# Altium integrated library TI Microcontroller MSP430 16-bit Ultra-Low Power.IntLib: 1463 symbols (part 42 of 130)
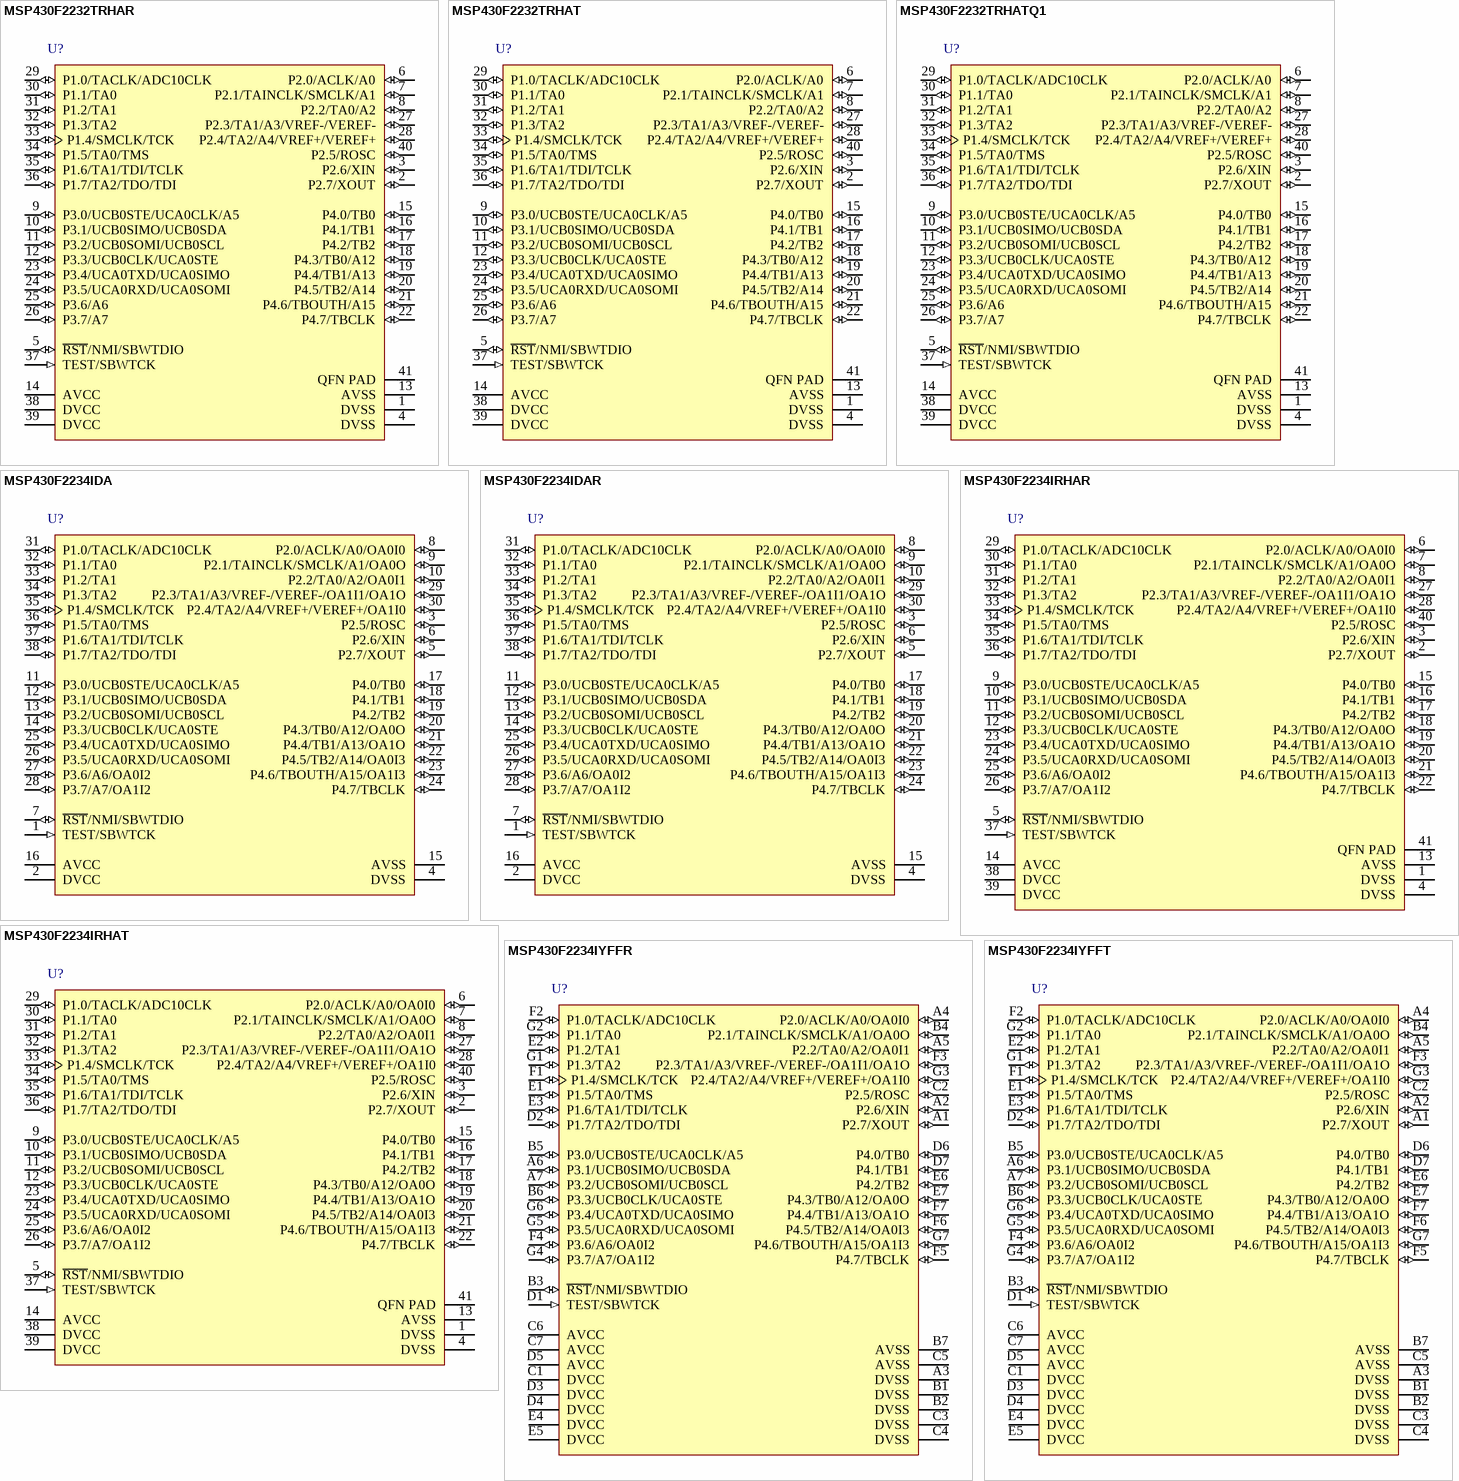
[diagram p357: symbols MSP430F2232TRHAR to MSP430F2234IYFFT]

## MSP430F2234IRHAT
designator U?
16 MHz Mixed Signal Microcontroller with 8 KB Flash, 512 B SRAM and 32 GPIOs, -40 to 85 degC, 40-pin QFN (RHA), Green (RoHS & no Sb/Br); Manufacturer: Texas Instruments; PartNumber: MSP430F2234IRHAT; ADC: 10-bit SAR; ADC Channels: 12; Brown Out Reset: Yes; Flash(KB): 8; Frequency(MHz): 16; GPIO: 32; SRAM(B): 512; SubFamily: 2 Series, Extended Temp; Timers - 16-bit: 2; USCI_A (UART/LIN/IrDA/SPI): 1; DatasheetVersion: SLAS504G; PackageVersion: 4204276/E; PackageReference: RHA40-4150X4150TP; PackageDescription: 40-Pin Plastic Flat Pack, Body 6 x 6 mm, Pitch 0.5 mm; Supplier 1: Digi-Key; Supplier Part Number 1: MSP430F2234IRHAR-ND; Supplier 2: Newark; Supplier Part Number 2: 28M6322; Supplier 3: Mouser; Supplier Part Number 3: 595-MSP430F2234IRHAR; Eco-Plan: Green (RoHS & no Sb/Br); USCI_B (I2C & SPI): 1; Watchdog: Yes; Mounting Technology: Surface Mount; Code_JEDEC: MO-220; ComponentLink1Description: Manufacturer URL; ComponentLink1URL: http://www.ti.com/; ComponentLink2Description: Datasheet; ComponentLink2URL: http://www.ti.com/general/docs/lit/getliterature.tsp?genericPartNumber=MSP430F2234&fileType=pdf; ComponentLink3Description: Package Specification; ComponentLink3URL: http://www.ti.com/litv/pdf/mpqf135c
footprint TI-RHA40-4150X4150TP_N (QFN, 40-Leads, Body 6x6mm, Pitch 0.5mm, Thermal Pad 4.15x4.15mm, IPC Medium Density)
pins: 1 DVSS (power) "Digital ground reference", 2 P2.7/XOUT (io), 3 P2.6/XIN (io), 4 DVSS (power) "Digital ground reference", 5 ~{RST}/NMI/SBWTDIO (io), 6 P2.0/ACLK/A0/OA0I0 (io), 7 P2.1/TAINCLK/SMCLK/A1/OA0O (io), 8 P2.2/TA0/A2/OA0I1 (io), 9 P3.0/UCB0STE/UCA0CLK/A5 (io), 10 P3.1/UCB0SIMO/UCB0SDA (io), 11 P3.2/UCB0SOMI/UCB0SCL (io), 12 P3.3/UCB0CLK/UCA0STE (io), 13 AVSS (power) "Analog ground reference", 14 AVCC (power) "Analog supply voltage", 15 P4.0/TB0 (io), 16 P4.1/TB1 (io), 17 P4.2/TB2 (io), 18 P4.3/TB0/A12/OA0O (io), 19 P4.4/TB1/A13/OA1O (io), 20 P4.5/TB2/A14/OA0I3 (io), 21 P4.6/TBOUTH/A15/OA1I3 (io), 22 P4.7/TBCLK (io), 23 P3.4/UCA0TXD/UCA0SIMO (io), 24 P3.5/UCA0RXD/UCA0SOMI (io), 25 P3.6/A6/OA0I2 (io), 26 P3.7/A7/OA1I2 (io), 27 P2.3/TA1/A3/VREF-/VEREF-/OA1I1/OA1O (io), 28 P2.4/TA2/A4/VREF+/VEREF+/OA1I0 (io), 29 P1.0/TACLK/ADC10CLK (io), 30 P1.1/TA0 (io), 31 P1.2/TA1 (io), 32 P1.3/TA2 (io), 33 P1.4/SMCLK/TCK (io), 34 P1.5/TA0/TMS (io), 35 P1.6/TA1/TDI/TCLK (io), 36 P1.7/TA2/TDO/TDI (io), 37 TEST/SBWTCK (in), 38 DVCC (power) "Digital supply voltage", 39 DVCC (power) "Digital supply voltage", 40 P2.5/ROSC (io), 41 QFN PAD (power) "QFN package pad; connection to DVSS recommended."

## MSP430F2234IYFFR
designator U?
16 MHz Mixed Signal Microcontroller with 8 KB Flash, 512 B SRAM and 32 GPIOs, -40 to 85 degC, 49-pin BGA (YFF), Green (RoHS & no Sb/Br); Manufacturer: Texas Instruments; PartNumber: MSP430F2234IYFFR; ADC: 10-bit SAR; ADC Channels: 12; Brown Out Reset: Yes; Flash(KB): 8; Frequency(MHz): 16; GPIO: 32; SRAM(B): 512; SubFamily: 2 Series, Extended Temp; Timers - 16-bit: 2; USCI_A (UART/LIN/IrDA/SPI): 1; DatasheetVersion: SLAS504G; PackageVersion: 4207625-16/AJ; PackageReference: YFF49; PackageDescription: 49-Ball Silicon Grid Array, Body 3.33 x 3.49 mm, Pitch 0.4 mm; Supplier 1: Digi-Key; Supplier Part Number 1: 296-21447-2-ND; Supplier 2: Digi-Key; Supplier Part Number 2: 296-21447-1-ND; Supplier 3: Digi-Key; Supplier Part Number 3: 296-21447-6-ND; Supplier 4: Farnell; Supplier Part Number 4: 1649420; Supplier 5: Farnell; Supplier Part Number 5: 1503304; Supplier 6: Newark; Supplier Part Number 6: 28M6323; Supplier 7: Newark; Supplier Part Number 7: 15P0271; Supplier 8: Mouser; Supplier Part Number 8: 595-MSP430F2234IRHAT; Eco-Plan: Green (RoHS & no Sb/Br); USCI_B (I2C & SPI): 1; Watchdog: Yes; Mounting Technology: Surface Mount; ComponentLink1Description: Manufacturer URL; ComponentLink1URL: http://www.ti.com/; ComponentLink2Description: Datasheet; ComponentLink2URL: http://www.ti.com/general/docs/lit/getliterature.tsp?genericPartNumber=MSP430F2234&fileType=pdf; ComponentLink3Description: Package Specification; ComponentLink3URL: http://www.ti.com/lit/ds/symlink/msp430f2232.pdf
footprint TI-YFF49-3330X3490DE (BGA, 49-Balls, Body 3.49x3.33mm, Pitch 0.4mm)
pins: A1 P2.7/XOUT (io), A2 P2.6/XIN (io), A3 DVSS (power) "Digital ground reference", A4 P2.0/ACLK/A0/OA0I0 (io), A5 P2.2/TA0/A2/OA0I1 (io), A6 P3.1/UCB0SIMO/UCB0SDA (io), A7 P3.2/UCB0SOMI/UCB0SCL (io), B1 DVSS (power) "Digital ground reference", B2 DVSS (power) "Digital ground reference", B3 ~{RST}/NMI/SBWTDIO (io), B4 P2.1/TAINCLK/SMCLK/A1/OA0O (io), B5 P3.0/UCB0STE/UCA0CLK/A5 (io), B6 P3.3/UCB0CLK/UCA0STE (io), B7 AVSS (power) "Analog ground reference", C1 DVCC (power) "Digital supply voltage", C2 P2.5/ROSC (io), C3 DVSS (power) "Digital ground reference", C4 DVSS (power) "Digital ground reference", C5 AVSS (power) "Analog ground reference", C6 AVCC (power) "Analog supply voltage", C7 AVCC (power) "Analog supply voltage", D1 TEST/SBWTCK (in), D2 P1.7/TA2/TDO/TDI (io), D3 DVCC (power) "Digital supply voltage", D4 DVCC (power) "Digital supply voltage", D5 AVCC (power) "Analog supply voltage", D6 P4.0/TB0 (io), D7 P4.1/TB1 (io), E1 P1.5/TA0/TMS (io), E2 P1.2/TA1 (io), E3 P1.6/TA1/TDI/TCLK (io), E4 DVCC (power) "Digital supply voltage", E5 DVCC (power) "Digital supply voltage", E6 P4.2/TB2 (io), E7 P4.3/TB0/A12/OA0O (io), F1 P1.4/SMCLK/TCK (io), F2 P1.0/TACLK/ADC10CLK (io), F3 P2.3/TA1/A3/VREF-/VEREF-/OA1I1/OA1O (io), F4 P3.6/A6/OA0I2 (io), F5 P4.7/TBCLK (io), F6 P4.5/TB2/A14/OA0I3 (io), F7 P4.4/TB1/A13/OA1O (io), G1 P1.3/TA2 (io), G2 P1.1/TA0 (io), G3 P2.4/TA2/A4/VREF+/VEREF+/OA1I0 (io), G4 P3.7/A7/OA1I2 (io), G5 P3.5/UCA0RXD/UCA0SOMI (io), G6 P3.4/UCA0TXD/UCA0SIMO (io), G7 P4.6/TBOUTH/A15/OA1I3 (io)

## MSP430F2234IYFFT
designator U?
16 MHz Mixed Signal Microcontroller with 8 KB Flash, 512 B SRAM and 32 GPIOs, -40 to 85 degC, 49-pin BGA (YFF), Green (RoHS & no Sb/Br); Manufacturer: Texas Instruments; PartNumber: MSP430F2234IYFFT; ADC: 10-bit SAR; ADC Channels: 12; Brown Out Reset: Yes; Flash(KB): 8; Frequency(MHz): 16; GPIO: 32; SRAM(B): 512; SubFamily: 2 Series, Extended Temp; Timers - 16-bit: 2; USCI_A (UART/LIN/IrDA/SPI): 1; DatasheetVersion: SLAS504G; PackageVersion: 4207625-16/AJ; PackageReference: YFF49; PackageDescription: 49-Ball Silicon Grid Array, Body 3.33 x 3.49 mm, Pitch 0.4 mm; Supplier 1: Digi-Key; Supplier Part Number 1: 296-28980-2-ND; Supplier 2: Digi-Key; Supplier Part Number 2: 296-28980-1-ND; Supplier 3: Digi-Key; Supplier Part Number 3: 296-28980-6-ND; Supplier 4: Newark; Supplier Part Number 4: 47W6737; Supplier 5: Mouser; Supplier Part Number 5: 595-MSP430F2234IYFFR; Eco-Plan: Green (RoHS & no Sb/Br); USCI_B (I2C & SPI): 1; Watchdog: Yes; Mounting Technology: Surface Mount; ComponentLink1Description: Manufacturer URL; ComponentLink1URL: http://www.ti.com/; ComponentLink2Description: Datasheet; ComponentLink2URL: http://www.ti.com/general/docs/lit/getliterature.tsp?genericPartNumber=MSP430F2234&fileType=pdf; ComponentLink3Description: Package Specification; ComponentLink3URL: http://www.ti.com/lit/ds/symlink/msp430f2232.pdf
footprint TI-YFF49-3330X3490DE (BGA, 49-Balls, Body 3.49x3.33mm, Pitch 0.4mm)
pins: A1 P2.7/XOUT (io), A2 P2.6/XIN (io), A3 DVSS (power) "Digital ground reference", A4 P2.0/ACLK/A0/OA0I0 (io), A5 P2.2/TA0/A2/OA0I1 (io), A6 P3.1/UCB0SIMO/UCB0SDA (io), A7 P3.2/UCB0SOMI/UCB0SCL (io), B1 DVSS (power) "Digital ground reference", B2 DVSS (power) "Digital ground reference", B3 ~{RST}/NMI/SBWTDIO (io), B4 P2.1/TAINCLK/SMCLK/A1/OA0O (io), B5 P3.0/UCB0STE/UCA0CLK/A5 (io), B6 P3.3/UCB0CLK/UCA0STE (io), B7 AVSS (power) "Analog ground reference", C1 DVCC (power) "Digital supply voltage", C2 P2.5/ROSC (io), C3 DVSS (power) "Digital ground reference", C4 DVSS (power) "Digital ground reference", C5 AVSS (power) "Analog ground reference", C6 AVCC (power) "Analog supply voltage", C7 AVCC (power) "Analog supply voltage", D1 TEST/SBWTCK (in), D2 P1.7/TA2/TDO/TDI (io), D3 DVCC (power) "Digital supply voltage", D4 DVCC (power) "Digital supply voltage", D5 AVCC (power) "Analog supply voltage", D6 P4.0/TB0 (io), D7 P4.1/TB1 (io), E1 P1.5/TA0/TMS (io), E2 P1.2/TA1 (io), E3 P1.6/TA1/TDI/TCLK (io), E4 DVCC (power) "Digital supply voltage", E5 DVCC (power) "Digital supply voltage", E6 P4.2/TB2 (io), E7 P4.3/TB0/A12/OA0O (io), F1 P1.4/SMCLK/TCK (io), F2 P1.0/TACLK/ADC10CLK (io), F3 P2.3/TA1/A3/VREF-/VEREF-/OA1I1/OA1O (io), F4 P3.6/A6/OA0I2 (io), F5 P4.7/TBCLK (io), F6 P4.5/TB2/A14/OA0I3 (io), F7 P4.4/TB1/A13/OA1O (io), G1 P1.3/TA2 (io), G2 P1.1/TA0 (io), G3 P2.4/TA2/A4/VREF+/VEREF+/OA1I0 (io), G4 P3.7/A7/OA1I2 (io), G5 P3.5/UCA0RXD/UCA0SOMI (io), G6 P3.4/UCA0TXD/UCA0SIMO (io), G7 P4.6/TBOUTH/A15/OA1I3 (io)

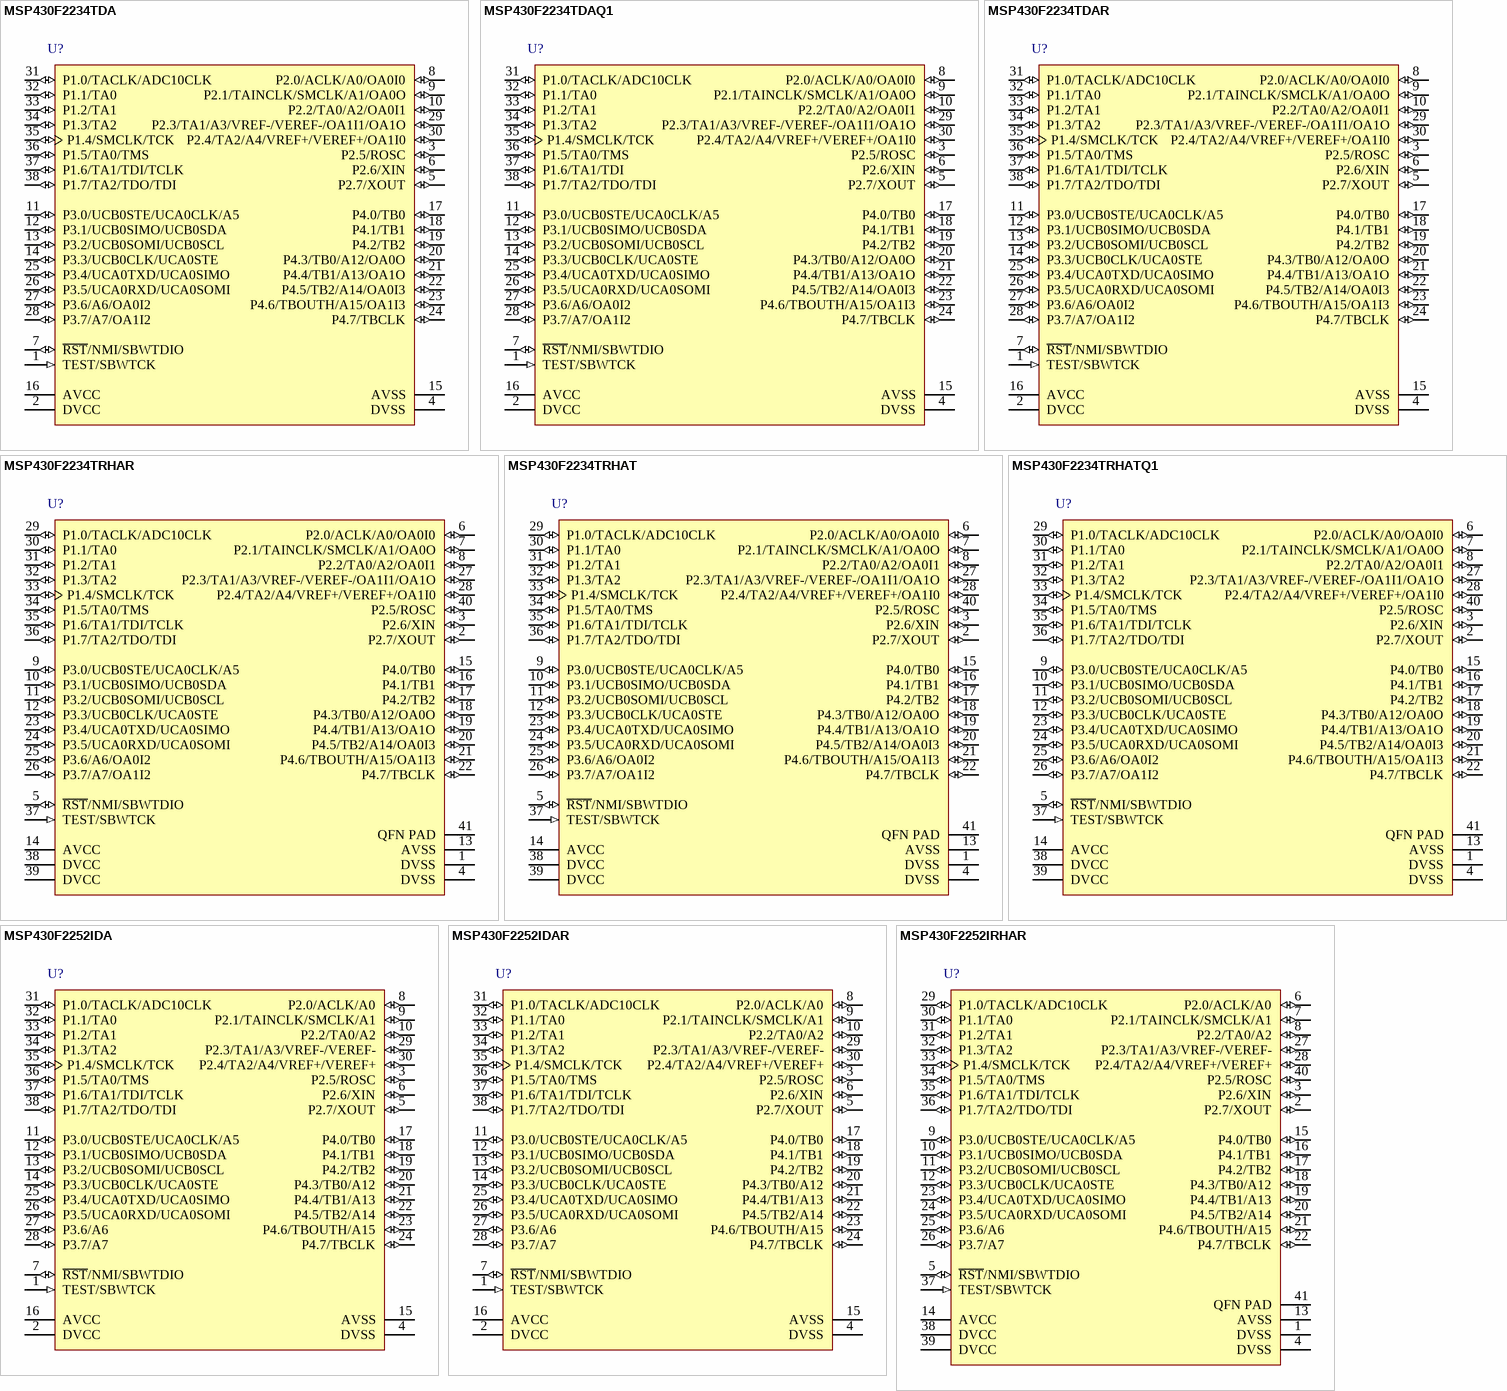
[diagram p61: symbols MSP430F2234TDA to MSP430F2252IRHAR]

## MSP430F2234TDA
designator U?
16 MHz Mixed Signal Microcontroller with 8 KB Flash, 512 B SRAM and 32 GPIOs, -40 to 105 degC, 38-pin SOP (DA), Green (RoHS & no Sb/Br); Manufacturer: Texas Instruments; PartNumber: MSP430F2234TDA; ADC: 10-bit SAR; ADC Channels: 12; Brown Out Reset: Yes; Flash(KB): 8; Frequency(MHz): 16; GPIO: 32; SRAM(B): 512; SubFamily: 2 Series, Extended Temp; Timers - 16-bit: 2; USCI_A (UART/LIN/IrDA/SPI): 1; DatasheetVersion: SLAS504G; PackageVersion: 4040066/F; PackageReference: DA38; PackageDescription: 38-Pin Plastic Small-Outline Package, Body 6.10 x 12.50 mm, Pitch 0.65 mm; Supplier 1: Newark; Supplier Part Number 1: 47W6738; Supplier 2: Mouser; Supplier Part Number 2: 595-MSP430F2234IYFFT; Eco-Plan: Green (RoHS & no Sb/Br); USCI_B (I2C & SPI): 1; Watchdog: Yes; Mounting Technology: Surface Mount; Code_JEDEC: MO-153; ComponentLink1Description: Manufacturer URL; ComponentLink1URL: http://www.ti.com/; ComponentLink2Description: Datasheet; ComponentLink2URL: http://www.ti.com/general/docs/lit/getliterature.tsp?genericPartNumber=MSP430F2234&fileType=pdf; ComponentLink3Description: Package Specification; ComponentLink3URL: http://www.ti.com/lit/ml/mtss002e/mtss002e.pdf
footprint TI-DA38_N (SOP, 38-Leads, Body 12.5x6.1mm, Pitch 0.65mm, IPC Medium Density)
pins: 1 TEST/SBWTCK (in), 2 DVCC (power) "Digital supply voltage", 3 P2.5/ROSC (io), 4 DVSS (power) "Digital ground reference", 5 P2.7/XOUT (io), 6 P2.6/XIN (io), 7 ~{RST}/NMI/SBWTDIO (io), 8 P2.0/ACLK/A0/OA0I0 (io), 9 P2.1/TAINCLK/SMCLK/A1/OA0O (io), 10 P2.2/TA0/A2/OA0I1 (io), 11 P3.0/UCB0STE/UCA0CLK/A5 (io), 12 P3.1/UCB0SIMO/UCB0SDA (io), 13 P3.2/UCB0SOMI/UCB0SCL (io), 14 P3.3/UCB0CLK/UCA0STE (io), 15 AVSS (power) "Analog ground reference", 16 AVCC (power) "Analog supply voltage", 17 P4.0/TB0 (io), 18 P4.1/TB1 (io), 19 P4.2/TB2 (io), 20 P4.3/TB0/A12/OA0O (io), 21 P4.4/TB1/A13/OA1O (io), 22 P4.5/TB2/A14/OA0I3 (io), 23 P4.6/TBOUTH/A15/OA1I3 (io), 24 P4.7/TBCLK (io), 25 P3.4/UCA0TXD/UCA0SIMO (io), 26 P3.5/UCA0RXD/UCA0SOMI (io), 27 P3.6/A6/OA0I2 (io), 28 P3.7/A7/OA1I2 (io), 29 P2.3/TA1/A3/VREF-/VEREF-/OA1I1/OA1O (io), 30 P2.4/TA2/A4/VREF+/VEREF+/OA1I0 (io), 31 P1.0/TACLK/ADC10CLK (io), 32 P1.1/TA0 (io), 33 P1.2/TA1 (io), 34 P1.3/TA2 (io), 35 P1.4/SMCLK/TCK (io), 36 P1.5/TA0/TMS (io), 37 P1.6/TA1/TDI/TCLK (io), 38 P1.7/TA2/TDO/TDI (io)

## MSP430F2234TDAQ1
designator U?
16 MHz Mixed Signal Microcontroller with 8 KB Flash, 512 B SRAM and 32 GPIOs, -40 to 105 degC, 38-pin SOP (DA); Manufacturer: Texas Instruments; PartNumber: MSP430F2234TDAQ1; ADC: 10-bit SAR; ADC Channels: 12; Brown Out Reset: Yes; Eco-Plan: TBD; Flash(KB): 8; Frequency(MHz): 16; GPIO: 32; SRAM(B): 512; SubFamily: Automotive, Extended Temp; Timers - 16-bit: 2; USCI_A (UART/LIN/IrDA/SPI): 1; USI: (I2C/SPI); DatasheetVersion: SLAS770; PackageVersion: 4040066/F; PackageReference: DA38; PackageDescription: 38-Pin Plastic Small-Outline Package, Body 6.10 x 12.50 mm, Pitch 0.65 mm; Supplier 1: Digi-Key; Supplier Part Number 1: MSP430F2234TDA-ND; Supplier 2: Farnell; Supplier Part Number 2: 1753292; Supplier 3: Newark; Supplier Part Number 3: 93R5548; Supplier 4: Mouser; Supplier Part Number 4: 595-MSP430F2234TDA; Temp Sensor: Yes; USCI_B (I2C & SPI): 1; Watchdog: Yes; Mounting Technology: Surface Mount; Code_JEDEC: MO-153; ComponentLink1Description: Manufacturer URL; ComponentLink1URL: http://www.ti.com/; ComponentLink2Description: Datasheet; ComponentLink2URL: http://www.ti.com/general/docs/lit/getliterature.tsp?genericPartNumber=MSP430F2234-Q1&fileType=pdf; ComponentLink3Description: Package Specification; ComponentLink3URL: http://www.ti.com/lit/ml/mtss002e/mtss002e.pdf
footprint TI-DA38_N (SOP, 38-Leads, Body 12.5x6.1mm, Pitch 0.65mm, IPC Medium Density)
pins: 1 TEST/SBWTCK (in), 2 DVCC (power) "Digital supply voltage", 3 P2.5/ROSC (io), 4 DVSS (power) "Digital ground reference", 5 P2.7/XOUT (io), 6 P2.6/XIN (io), 7 ~{RST}/NMI/SBWTDIO (io), 8 P2.0/ACLK/A0/OA0I0 (io), 9 P2.1/TAINCLK/SMCLK/A1/OA0O (io), 10 P2.2/TA0/A2/OA0I1 (io), 11 P3.0/UCB0STE/UCA0CLK/A5 (io), 12 P3.1/UCB0SIMO/UCB0SDA (io), 13 P3.2/UCB0SOMI/UCB0SCL (io), 14 P3.3/UCB0CLK/UCA0STE (io), 15 AVSS (power) "Analog ground reference", 16 AVCC (power) "Analog supply voltage", 17 P4.0/TB0 (io), 18 P4.1/TB1 (io), 19 P4.2/TB2 (io), 20 P4.3/TB0/A12/OA0O (io), 21 P4.4/TB1/A13/OA1O (io), 22 P4.5/TB2/A14/OA0I3 (io), 23 P4.6/TBOUTH/A15/OA1I3 (io), 24 P4.7/TBCLK (io), 25 P3.4/UCA0TXD/UCA0SIMO (io), 26 P3.5/UCA0RXD/UCA0SOMI (io), 27 P3.6/A6/OA0I2 (io), 28 P3.7/A7/OA1I2 (io), 29 P2.3/TA1/A3/VREF-/VEREF-/OA1I1/OA1O (io), 30 P2.4/TA2/A4/VREF+/VEREF+/OA1I0 (io), 31 P1.0/TACLK/ADC10CLK (io), 32 P1.1/TA0 (io), 33 P1.2/TA1 (io), 34 P1.3/TA2 (io), 35 P1.4/SMCLK/TCK (io), 36 P1.5/TA0/TMS (io), 37 P1.6/TA1/TDI (io), 38 P1.7/TA2/TDO/TDI (io)

## MSP430F2234TDAR
designator U?
16 MHz Mixed Signal Microcontroller with 8 KB Flash, 512 B SRAM and 32 GPIOs, -40 to 105 degC, 38-pin SOP (DA), Green (RoHS & no Sb/Br); Manufacturer: Texas Instruments; PartNumber: MSP430F2234TDAR; ADC: 10-bit SAR; ADC Channels: 12; Brown Out Reset: Yes; Flash(KB): 8; Frequency(MHz): 16; GPIO: 32; SRAM(B): 512; SubFamily: 2 Series, Extended Temp; Timers - 16-bit: 2; USCI_A (UART/LIN/IrDA/SPI): 1; DatasheetVersion: SLAS504G; PackageVersion: 4040066/F; PackageReference: DA38; PackageDescription: 38-Pin Plastic Small-Outline Package, Body 6.10 x 12.50 mm, Pitch 0.65 mm; Supplier 1: Mouser; Supplier Part Number 1: N/A; Eco-Plan: Green (RoHS & no Sb/Br); USCI_B (I2C & SPI): 1; Watchdog: Yes; Mounting Technology: Surface Mount; Code_JEDEC: MO-153; ComponentLink1Description: Manufacturer URL; ComponentLink1URL: http://www.ti.com/; ComponentLink2Description: Datasheet; ComponentLink2URL: http://www.ti.com/general/docs/lit/getliterature.tsp?genericPartNumber=MSP430F2234&fileType=pdf; ComponentLink3Description: Package Specification; ComponentLink3URL: http://www.ti.com/lit/ml/mtss002e/mtss002e.pdf
footprint TI-DA38_N (SOP, 38-Leads, Body 12.5x6.1mm, Pitch 0.65mm, IPC Medium Density)
pins: 1 TEST/SBWTCK (in), 2 DVCC (power) "Digital supply voltage", 3 P2.5/ROSC (io), 4 DVSS (power) "Digital ground reference", 5 P2.7/XOUT (io), 6 P2.6/XIN (io), 7 ~{RST}/NMI/SBWTDIO (io), 8 P2.0/ACLK/A0/OA0I0 (io), 9 P2.1/TAINCLK/SMCLK/A1/OA0O (io), 10 P2.2/TA0/A2/OA0I1 (io), 11 P3.0/UCB0STE/UCA0CLK/A5 (io), 12 P3.1/UCB0SIMO/UCB0SDA (io), 13 P3.2/UCB0SOMI/UCB0SCL (io), 14 P3.3/UCB0CLK/UCA0STE (io), 15 AVSS (power) "Analog ground reference", 16 AVCC (power) "Analog supply voltage", 17 P4.0/TB0 (io), 18 P4.1/TB1 (io), 19 P4.2/TB2 (io), 20 P4.3/TB0/A12/OA0O (io), 21 P4.4/TB1/A13/OA1O (io), 22 P4.5/TB2/A14/OA0I3 (io), 23 P4.6/TBOUTH/A15/OA1I3 (io), 24 P4.7/TBCLK (io), 25 P3.4/UCA0TXD/UCA0SIMO (io), 26 P3.5/UCA0RXD/UCA0SOMI (io), 27 P3.6/A6/OA0I2 (io), 28 P3.7/A7/OA1I2 (io), 29 P2.3/TA1/A3/VREF-/VEREF-/OA1I1/OA1O (io), 30 P2.4/TA2/A4/VREF+/VEREF+/OA1I0 (io), 31 P1.0/TACLK/ADC10CLK (io), 32 P1.1/TA0 (io), 33 P1.2/TA1 (io), 34 P1.3/TA2 (io), 35 P1.4/SMCLK/TCK (io), 36 P1.5/TA0/TMS (io), 37 P1.6/TA1/TDI/TCLK (io), 38 P1.7/TA2/TDO/TDI (io)

## MSP430F2234TRHAR
designator U?
16 MHz Mixed Signal Microcontroller with 8 KB Flash, 512 B SRAM and 32 GPIOs, -40 to 105 degC, 40-pin QFN (RHA), Green (RoHS & no Sb/Br); Manufacturer: Texas Instruments; PartNumber: MSP430F2234TRHAR; ADC: 10-bit SAR; ADC Channels: 12; Brown Out Reset: Yes; Flash(KB): 8; Frequency(MHz): 16; GPIO: 32; SRAM(B): 512; SubFamily: 2 Series, Extended Temp; Timers - 16-bit: 2; USCI_A (UART/LIN/IrDA/SPI): 1; DatasheetVersion: SLAS504G; PackageVersion: 4204276/E; PackageReference: RHA40-4150X4150TP; PackageDescription: 40-Pin Plastic Flat Pack, Body 6 x 6 mm, Pitch 0.5 mm; Supplier 1: Digi-Key; Supplier Part Number 1: 296-21448-2-ND; Supplier 2: Digi-Key; Supplier Part Number 2: 296-21448-1-ND; Supplier 3: Digi-Key; Supplier Part Number 3: 296-21448-6-ND; Supplier 4: Newark; Supplier Part Number 4: 28M6325; Supplier 5: Mouser; Supplier Part Number 5: 595-MSP430F2234TDAR; Eco-Plan: Green (RoHS & no Sb/Br); USCI_B (I2C & SPI): 1; Watchdog: Yes; Mounting Technology: Surface Mount; Code_JEDEC: MO-220; ComponentLink1Description: Manufacturer URL; ComponentLink1URL: http://www.ti.com/; ComponentLink2Description: Datasheet; ComponentLink2URL: http://www.ti.com/general/docs/lit/getliterature.tsp?genericPartNumber=MSP430F2234&fileType=pdf; ComponentLink3Description: Package Specification; ComponentLink3URL: http://www.ti.com/litv/pdf/mpqf135c
footprint TI-RHA40-4150X4150TP_N (QFN, 40-Leads, Body 6x6mm, Pitch 0.5mm, Thermal Pad 4.15x4.15mm, IPC Medium Density)
pins: 1 DVSS (power) "Digital ground reference", 2 P2.7/XOUT (io), 3 P2.6/XIN (io), 4 DVSS (power) "Digital ground reference", 5 ~{RST}/NMI/SBWTDIO (io), 6 P2.0/ACLK/A0/OA0I0 (io), 7 P2.1/TAINCLK/SMCLK/A1/OA0O (io), 8 P2.2/TA0/A2/OA0I1 (io), 9 P3.0/UCB0STE/UCA0CLK/A5 (io), 10 P3.1/UCB0SIMO/UCB0SDA (io), 11 P3.2/UCB0SOMI/UCB0SCL (io), 12 P3.3/UCB0CLK/UCA0STE (io), 13 AVSS (power) "Analog ground reference", 14 AVCC (power) "Analog supply voltage", 15 P4.0/TB0 (io), 16 P4.1/TB1 (io), 17 P4.2/TB2 (io), 18 P4.3/TB0/A12/OA0O (io), 19 P4.4/TB1/A13/OA1O (io), 20 P4.5/TB2/A14/OA0I3 (io), 21 P4.6/TBOUTH/A15/OA1I3 (io), 22 P4.7/TBCLK (io), 23 P3.4/UCA0TXD/UCA0SIMO (io), 24 P3.5/UCA0RXD/UCA0SOMI (io), 25 P3.6/A6/OA0I2 (io), 26 P3.7/A7/OA1I2 (io), 27 P2.3/TA1/A3/VREF-/VEREF-/OA1I1/OA1O (io), 28 P2.4/TA2/A4/VREF+/VEREF+/OA1I0 (io), 29 P1.0/TACLK/ADC10CLK (io), 30 P1.1/TA0 (io), 31 P1.2/TA1 (io), 32 P1.3/TA2 (io), 33 P1.4/SMCLK/TCK (io), 34 P1.5/TA0/TMS (io), 35 P1.6/TA1/TDI/TCLK (io), 36 P1.7/TA2/TDO/TDI (io), 37 TEST/SBWTCK (in), 38 DVCC (power) "Digital supply voltage", 39 DVCC (power) "Digital supply voltage", 40 P2.5/ROSC (io), 41 QFN PAD (power) "QFN package pad; connection to DVSS recommended."

## MSP430F2234TRHAT
designator U?
16 MHz Mixed Signal Microcontroller with 8 KB Flash, 512 B SRAM and 32 GPIOs, -40 to 105 degC, 40-pin QFN (RHA), Green (RoHS & no Sb/Br); Manufacturer: Texas Instruments; PartNumber: MSP430F2234TRHAT; ADC: 10-bit SAR; ADC Channels: 12; Brown Out Reset: Yes; Flash(KB): 8; Frequency(MHz): 16; GPIO: 32; SRAM(B): 512; SubFamily: 2 Series, Extended Temp; Timers - 16-bit: 2; USCI_A (UART/LIN/IrDA/SPI): 1; DatasheetVersion: SLAS504G; PackageVersion: 4204276/E; PackageReference: RHA40-4150X4150TP; PackageDescription: 40-Pin Plastic Flat Pack, Body 6 x 6 mm, Pitch 0.5 mm; Supplier 1: Digi-Key; Supplier Part Number 1: MSP430F2234TRHAR-ND; Supplier 2: Mouser; Supplier Part Number 2: 595-MSP430F2234TRHAR; Eco-Plan: Green (RoHS & no Sb/Br); USCI_B (I2C & SPI): 1; Watchdog: Yes; Mounting Technology: Surface Mount; Code_JEDEC: MO-220; ComponentLink1Description: Manufacturer URL; ComponentLink1URL: http://www.ti.com/; ComponentLink2Description: Datasheet; ComponentLink2URL: http://www.ti.com/general/docs/lit/getliterature.tsp?genericPartNumber=MSP430F2234&fileType=pdf; ComponentLink3Description: Package Specification; ComponentLink3URL: http://www.ti.com/litv/pdf/mpqf135c
footprint TI-RHA40-4150X4150TP_N (QFN, 40-Leads, Body 6x6mm, Pitch 0.5mm, Thermal Pad 4.15x4.15mm, IPC Medium Density)
pins: 1 DVSS (power) "Digital ground reference", 2 P2.7/XOUT (io), 3 P2.6/XIN (io), 4 DVSS (power) "Digital ground reference", 5 ~{RST}/NMI/SBWTDIO (io), 6 P2.0/ACLK/A0/OA0I0 (io), 7 P2.1/TAINCLK/SMCLK/A1/OA0O (io), 8 P2.2/TA0/A2/OA0I1 (io), 9 P3.0/UCB0STE/UCA0CLK/A5 (io), 10 P3.1/UCB0SIMO/UCB0SDA (io), 11 P3.2/UCB0SOMI/UCB0SCL (io), 12 P3.3/UCB0CLK/UCA0STE (io), 13 AVSS (power) "Analog ground reference", 14 AVCC (power) "Analog supply voltage", 15 P4.0/TB0 (io), 16 P4.1/TB1 (io), 17 P4.2/TB2 (io), 18 P4.3/TB0/A12/OA0O (io), 19 P4.4/TB1/A13/OA1O (io), 20 P4.5/TB2/A14/OA0I3 (io), 21 P4.6/TBOUTH/A15/OA1I3 (io), 22 P4.7/TBCLK (io), 23 P3.4/UCA0TXD/UCA0SIMO (io), 24 P3.5/UCA0RXD/UCA0SOMI (io), 25 P3.6/A6/OA0I2 (io), 26 P3.7/A7/OA1I2 (io), 27 P2.3/TA1/A3/VREF-/VEREF-/OA1I1/OA1O (io), 28 P2.4/TA2/A4/VREF+/VEREF+/OA1I0 (io), 29 P1.0/TACLK/ADC10CLK (io), 30 P1.1/TA0 (io), 31 P1.2/TA1 (io), 32 P1.3/TA2 (io), 33 P1.4/SMCLK/TCK (io), 34 P1.5/TA0/TMS (io), 35 P1.6/TA1/TDI/TCLK (io), 36 P1.7/TA2/TDO/TDI (io), 37 TEST/SBWTCK (in), 38 DVCC (power) "Digital supply voltage", 39 DVCC (power) "Digital supply voltage", 40 P2.5/ROSC (io), 41 QFN PAD (power) "QFN package pad; connection to DVSS recommended."

## MSP430F2234TRHATQ1
designator U?
16 MHz Mixed Signal Microcontroller with 8 KB Flash, 512 B SRAM and 32 GPIOs, -40 to 105 degC, 40-pin QFN (RHA); Manufacturer: Texas Instruments; PartNumber: MSP430F2234TRHATQ1; ADC: 10-bit SAR; ADC Channels: 12; Brown Out Reset: Yes; Eco-Plan: TBD; Flash(KB): 8; Frequency(MHz): 16; GPIO: 32; SRAM(B): 512; SubFamily: Automotive, Extended Temp; Timers - 16-bit: 2; USCI_A (UART/LIN/IrDA/SPI): 1; USI: (I2C/SPI); DatasheetVersion: SLAS770; PackageReference: RHA40-2900X2900TP; PackageDescription: 40-Pin Plastic Flat Pack, Body 6 x 6 mm, Pitch 0.5 mm; Supplier 1: Digi-Key; Supplier Part Number 1: 296-21449-2-ND; Supplier 2: Digi-Key; Supplier Part Number 2: 296-21449-1-ND; Supplier 3: Digi-Key; Supplier Part Number 3: 296-21449-6-ND; Supplier 4: Farnell; Supplier Part Number 4: 1753293; Supplier 5: Newark; Supplier Part Number 5: 28M6327; Supplier 6: Mouser; Supplier Part Number 6: 595-MSP430F2234TRHAT; Temp Sensor: Yes; USCI_B (I2C & SPI): 1; Watchdog: Yes; Mounting Technology: Surface Mount; Code_JEDEC: MO-153; ComponentLink1Description: Manufacturer URL; ComponentLink1URL: http://www.ti.com/; ComponentLink2Description: Datasheet; ComponentLink2URL: http://www.ti.com/general/docs/lit/getliterature.tsp?genericPartNumber=MSP430F2234-Q1&fileType=pdf; ComponentLink3Description: Package Specification; ComponentLink3URL: http://www.ti.com/litv/pdf/mtss003d
footprint TI-RHA40-2900X2900TP_N (QFN, 40-Leads, Body 6x6mm, Pitch 0.5mm, Thermal Pad 2.9x2.9mm, IPC Medium Density)
pins: 1 DVSS (power) "Digital ground reference", 2 P2.7/XOUT (io), 3 P2.6/XIN (io), 4 DVSS (power) "Digital ground reference", 5 ~{RST}/NMI/SBWTDIO (io), 6 P2.0/ACLK/A0/OA0I0 (io), 7 P2.1/TAINCLK/SMCLK/A1/OA0O (io), 8 P2.2/TA0/A2/OA0I1 (io), 9 P3.0/UCB0STE/UCA0CLK/A5 (io), 10 P3.1/UCB0SIMO/UCB0SDA (io), 11 P3.2/UCB0SOMI/UCB0SCL (io), 12 P3.3/UCB0CLK/UCA0STE (io), 13 AVSS (power) "Analog ground reference", 14 AVCC (power) "Analog supply voltage", 15 P4.0/TB0 (io), 16 P4.1/TB1 (io), 17 P4.2/TB2 (io), 18 P4.3/TB0/A12/OA0O (io), 19 P4.4/TB1/A13/OA1O (io), 20 P4.5/TB2/A14/OA0I3 (io), 21 P4.6/TBOUTH/A15/OA1I3 (io), 22 P4.7/TBCLK (io), 23 P3.4/UCA0TXD/UCA0SIMO (io), 24 P3.5/UCA0RXD/UCA0SOMI (io), 25 P3.6/A6/OA0I2 (io), 26 P3.7/A7/OA1I2 (io), 27 P2.3/TA1/A3/VREF-/VEREF-/OA1I1/OA1O (io), 28 P2.4/TA2/A4/VREF+/VEREF+/OA1I0 (io), 29 P1.0/TACLK/ADC10CLK (io), 30 P1.1/TA0 (io), 31 P1.2/TA1 (io), 32 P1.3/TA2 (io), 33 P1.4/SMCLK/TCK (io), 34 P1.5/TA0/TMS (io), 35 P1.6/TA1/TDI/TCLK (io), 36 P1.7/TA2/TDO/TDI (io), 37 TEST/SBWTCK (in), 38 DVCC (power) "Digital supply voltage", 39 DVCC (power) "Digital supply voltage", 40 P2.5/ROSC (io), 41 QFN PAD (power) "QFN package pad; connection to DVSS recommended."

## MSP430F2252IDA
designator U?
16 MHz Mixed Signal Microcontroller with 16 KB Flash, 512 B SRAM and 32 GPIOs, -40 to 85 degC, 38-pin SOP (DA), Green (RoHS & no Sb/Br); Manufacturer: Texas Instruments; PartNumber: MSP430F2252IDA; ADC: 10-bit SAR; ADC Channels: 12; Brown Out Reset: Yes; Flash(KB): 16; GPIO: 32; SRAM(B): 512; SubFamily: 2 Series, Extended Temp; Timers - 16-bit: 2; USCI_A (UART/LIN/IrDA/SPI): 1; DatasheetVersion: SLAS504G; PackageVersion: 4040066/F; PackageReference: DA38; PackageDescription: 38-Pin Plastic Small-Outline Package, Body 6.10 x 12.50 mm, Pitch 0.65 mm; Supplier 1: Mouser; Supplier Part Number 1: N/A; Eco-Plan: Green (RoHS & no Sb/Br); Frequency(MHz): 16; USCI_B (I2C & SPI): 1; Watchdog: Yes; Mounting Technology: Surface Mount; Code_JEDEC: MO-153; ComponentLink1Description: Manufacturer URL; ComponentLink1URL: http://www.ti.com/; ComponentLink2Description: Datasheet; ComponentLink2URL: http://www.ti.com/general/docs/lit/getliterature.tsp?genericPartNumber=MSP430F2252&fileType=pdf; ComponentLink3Description: Package Specification; ComponentLink3URL: http://www.ti.com/lit/ml/mtss002e/mtss002e.pdf
footprint TI-DA38_N (SOP, 38-Leads, Body 12.5x6.1mm, Pitch 0.65mm, IPC Medium Density)
pins: 1 TEST/SBWTCK (in), 2 DVCC (power) "Digital supply voltage", 3 P2.5/ROSC (io), 4 DVSS (power) "Digital ground reference", 5 P2.7/XOUT (io), 6 P2.6/XIN (io), 7 ~{RST}/NMI/SBWTDIO (io), 8 P2.0/ACLK/A0 (io), 9 P2.1/TAINCLK/SMCLK/A1 (io), 10 P2.2/TA0/A2 (io), 11 P3.0/UCB0STE/UCA0CLK/A5 (io), 12 P3.1/UCB0SIMO/UCB0SDA (io), 13 P3.2/UCB0SOMI/UCB0SCL (io), 14 P3.3/UCB0CLK/UCA0STE (io), 15 AVSS (power) "Analog ground reference", 16 AVCC (power) "Analog supply voltage", 17 P4.0/TB0 (io), 18 P4.1/TB1 (io), 19 P4.2/TB2 (io), 20 P4.3/TB0/A12 (io), 21 P4.4/TB1/A13 (io), 22 P4.5/TB2/A14 (io), 23 P4.6/TBOUTH/A15 (io), 24 P4.7/TBCLK (io), 25 P3.4/UCA0TXD/UCA0SIMO (io), 26 P3.5/UCA0RXD/UCA0SOMI (io), 27 P3.6/A6 (io), 28 P3.7/A7 (io), 29 P2.3/TA1/A3/VREF-/VEREF- (io), 30 P2.4/TA2/A4/VREF+/VEREF+ (io), 31 P1.0/TACLK/ADC10CLK (io), 32 P1.1/TA0 (io), 33 P1.2/TA1 (io), 34 P1.3/TA2 (io), 35 P1.4/SMCLK/TCK (io), 36 P1.5/TA0/TMS (io), 37 P1.6/TA1/TDI/TCLK (io), 38 P1.7/TA2/TDO/TDI (io)